# Altium schematic symbol library KN_ECART.SchLib: 7 symbols
Pins are listed as number, name and electrical type; pins without a type are passive.

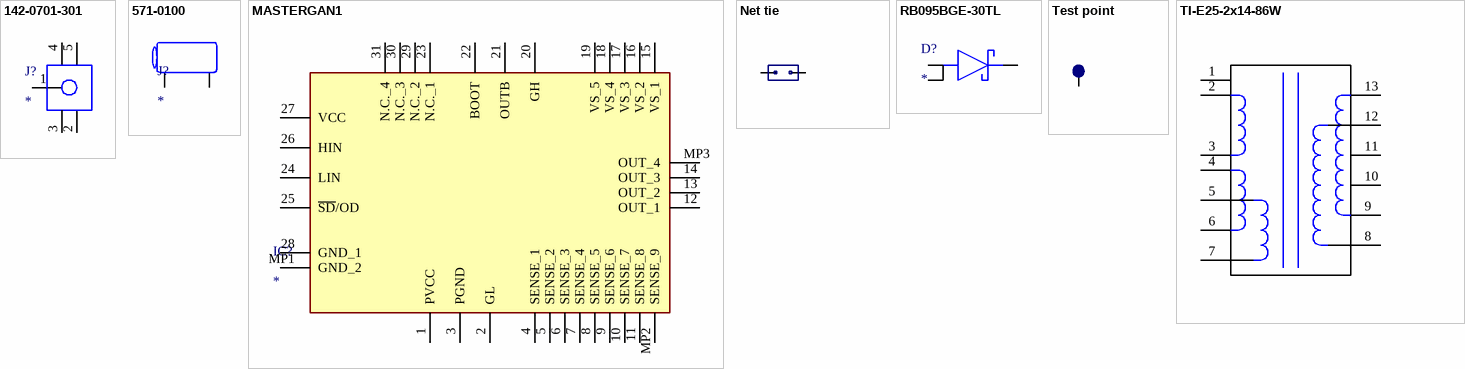
[diagram p0: symbols 142-0701-301 to TI­E25­2x14­86W]

## 142-0701-301
designator J?
Connector; Manufacturer_Name: Cinch Connectivity Solutions; Manufacturer_Part_Number: 142-0701-301; Datasheet Link: https://datasheet.datasheetarchive.com/originals/distributors/Datasheets_SAMA/2ec9b041f970d014d2778887508fd87c.pdf; Height: 9.779mm; Mouser Part Number: 530-142-0701-301; Mouser Price/Stock: https://www.mouser.co.uk/ProductDetail/Johnson-Cinch-Connectivity-Solutions/142-0701-301?qs=VqHsQWpF6un5h9kBF%252BTxDw%3D%3D; Arrow Part Number: 142-0701-301; Arrow Price/Stock: https://www.arrow.com/en/products/142-0701-301/cinch-connectivity-solutions?region=nac
footprint 1420701301
pins: 1, 2, 3, 4, 5

## 571-0100
designator J?
Connector; Manufacturer_Name: DELTRON COMPONENTS; Manufacturer_Part_Number: 571-0100; Datasheet Link: https://www.dem-uk.com/deltron-components/Data/Product_Downloads/deltron-571-0100-4mm-90deg-single-socket-data.pdf; Height: 12.4mm; Mouser Part Number: 164-6218; Mouser Price/Stock: https://www.mouser.co.uk/ProductDetail/Deltron/571-0100?qs=E2gf03EXmtoqC8%2FBhoPdrg%3D%3D
footprint 5710100
pins: 1, 2 (power)

## MASTERGAN1
designator IC?
Integrated Circuit; Manufacturer_Name: STMicroelectronics; Manufacturer_Part_Number: MASTERGAN1; Datasheet Link: https://www.mouser.com/datasheet/2/389/mastergan1-1893186.pdf; Height: 1mm; Mouser Part Number: 511-MASTERGAN1; Mouser Price/Stock: https://www.mouser.co.uk/ProductDetail/STMicroelectronics/MASTERGAN1?qs=hWgE7mdIu5TUQlvSzk235A%3D%3D; Arrow Part Number: MASTERGAN1; Arrow Price/Stock: https://www.arrow.com/en/products/mastergan1/stmicroelectronics?region=nac
footprint MASTERGAN1
pins: 1 PVCC, 2 GL, 3 PGND, 4 SENSE_1, 5 SENSE_2, 6 SENSE_3, 7 SENSE_4, 8 SENSE_5, 9 SENSE_6, 10 SENSE_7, 11 SENSE_8, 12 OUT_1, 13 OUT_2, 14 OUT_3, 15 VS_1, 16 VS_2, 17 VS_3, 18 VS_4, 19 VS_5, 20 GH, 21 OUTB, 22 BOOT, 23 N.C._1, 24 LIN, 25 ~{SD}/OD, 26 HIN, 27 VCC, 28 GND_1, 29 N.C._2, 30 N.C._3, 31 N.C._4, MP1 GND_2, MP2 SENSE_9, MP3 OUT_4

## Net tie
designator NT?  (net tie, no BOM)
Value: *; HelpURL: *; MPN: *
footprint Net tie (Net tie - SMD short)
pins: 1, 2

## RB095BGE-30TL
designator D?
Diode; Manufacturer_Name: ROHM Semiconductor; Manufacturer_Part_Number: RB095BGE-30TL; Description: ROHM 35V 6A; Datasheet Link: https://fscdn.rohm.com/en/products/databook/datasheet/discrete/diode/schottky_barrier/rb095bge-30tl-e.pdf; Mouser Part Number: 755-RB095BGE-30TL; Mouser Price/Stock: https://www.mouser.co.uk/ProductDetail/ROHM-Semiconductor/RB095BGE-30TL?qs=gTYE2QTfZfT0xMzgoJJZow%3D%3D
footprint RD3P175SNFRATL
pins: 1 A_1, 2 K, 3 A_2

## Test point
designator TP?  (no BOM)
Value: *; HelpURL: *; MPN: *
footprint Test point (Test point SMD, 50 mil)
pins: 1

## TI­E25­2x14­86W
designator L?
Transformer; Value: *; HelpURL: *; MPN: *
footprint TI­E25­2x14­86W (tRANSFORMER)
pins: 1, 2, 3, 4, 5, 6, 7, 8, 9, 10, 11, 12, 13